# EAGLE library part PS25-10 (library ct-bot)
PIN HEADER
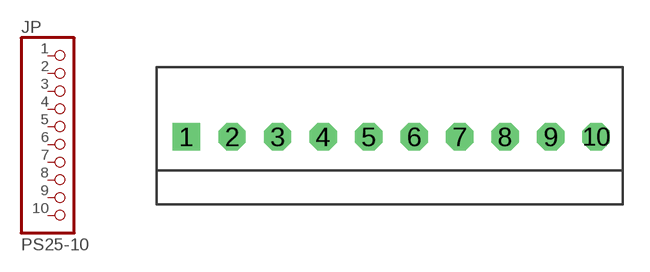
[diagram p3: symbol with the pads of TS_PS25_10; footprint TS_PS25_10]

Designator prefix JP

## PS25-10PS25-10  [TS_PS25_10]
1  1  pas
2  2  pas
3  3  pas
4  4  pas
5  5  pas
6  6  pas
7  7  pas
8  8  pas
9  9  pas
10  10  pas

## Footprint TS_PS25_10 (pad centres in mm)
PIN HEADER
drill 1.016 square: 1 -11.445,0.001
drill 1.016 octagon: 2 -8.894,0.001; 3 -6.354,0.001; 4 -3.814,0.001; 5 -1.274,0.001; 6 1.266,0.001; 7 3.806,0.001; 8 6.346,0.001; 9 8.886,0.001; 10 11.426,0.001